# Altium integrated library Integrated_Library1.IntLib: 1 symbol
Pins are listed as number, name and electrical type; pins without a type are passive.

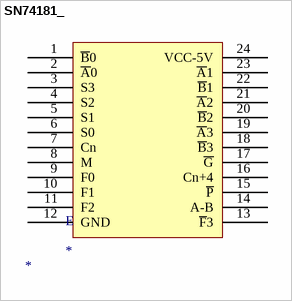
[diagram p0: symbol SN74181_]

## SN74181_
designator E
Parameter 1: *
footprint DIP24
pins: 1 ~{B}0, 2 ~{A}0, 3 S3, 4 S2, 5 S1, 6 S0, 7 Cn, 8 M, 9 F0, 10 F1, 11 F2, 12 GND, 13 ~{F}3, 14 A-B, 15 ~{P}, 16 Cn+4, 17 ~{G}, 18 ~{B}3, 19 ~{A}3, 20 ~{B}2, 21 ~{A}2, 22 ~{B}1, 23 ~{A}1, 24 VCC-5V